# Altium footprint library NET_TIE_16mil.PcbLib: 1 footprints
Each footprint in its own frame and in the unit in brackets; x right, y up, seen from the top. Pads: shape width x height; smd on the part's side, far side on the other; paste and mask are expansions set on the pad; w line width, h text height; cw(c..) or ccw(c..) is an arc to the next point about the centre after c.
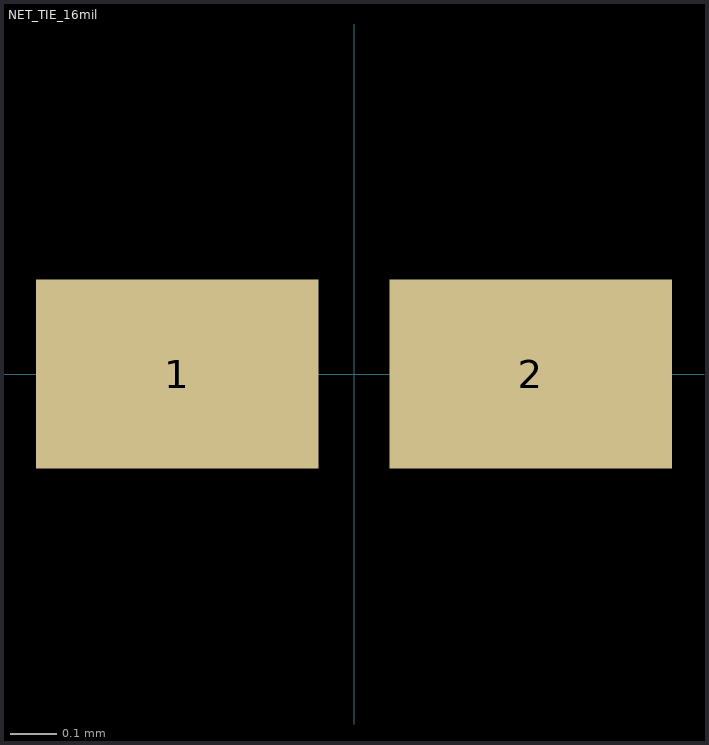
[diagram p0: the footprint, top view; thin cyan lines are the x and y axes]

## NET_TIE_16mil [mil]
pads (2):
  rect 24x16 smd paste-39330.7 mask-39330.7: 1(-15,0) 2(15,0)